# EAGLE library part 24LC1025-I/SM (library ahrs)
1024K I2C CMOS Serial EEPROM
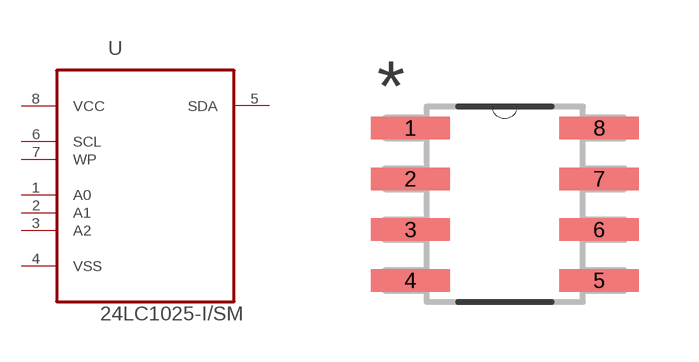
[diagram p3: symbol with the pads of SOIC8-N_MC; footprint SOIC8-N_MC]

Designator prefix -

## 24LC1025-I/SM  [SOIC8-N_MC]
1  A0  in
2  A1  in
3  A2  in
4  VSS  pas
5  SDA
6  SCL  in
7  WP  in
8  VCC  pwr

## Footprint SOIC8-N_MC (pad centres in mm)
smd 1.981 x 0.559: 1 -2.362,1.905; 2 -2.362,0.635; 3 -2.362,-0.635; 4 -2.362,-1.905; 5 2.362,-1.905; 6 2.362,-0.635; 7 2.362,0.635; 8 2.362,1.905